# Altium schematic symbol library MyLibs_DCDC.SchLib: 14 symbols
Pins are listed as number, name and electrical type; pins without a type are passive.

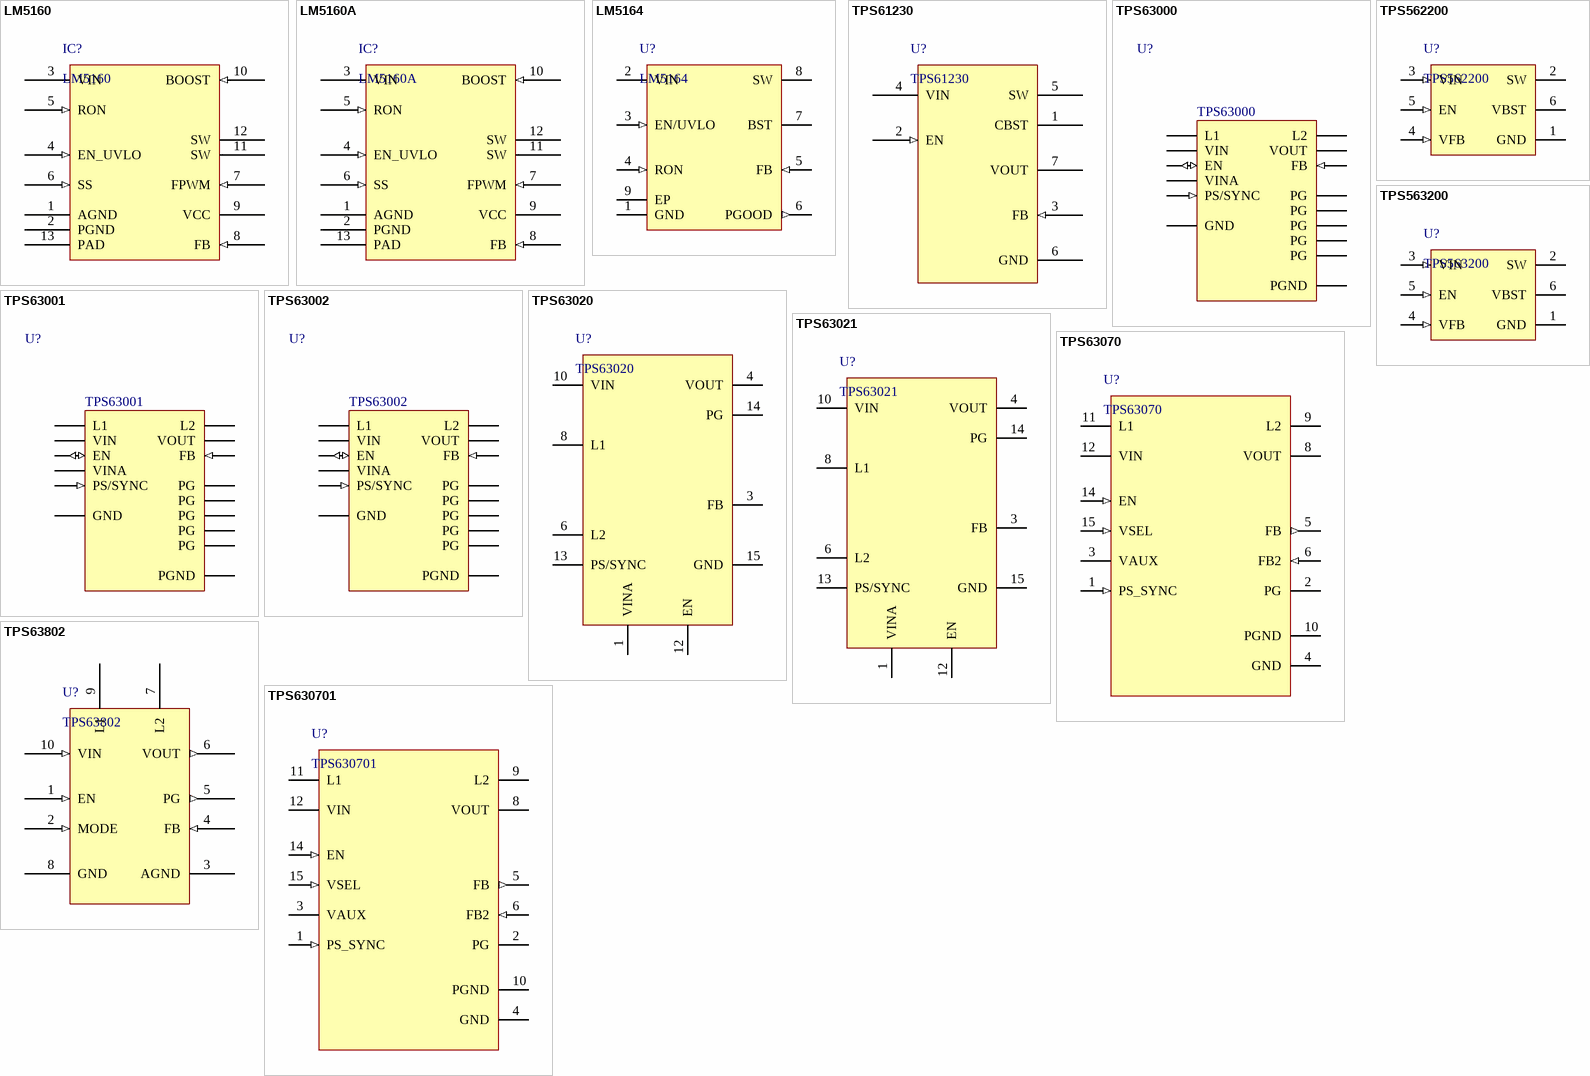
[diagram p0: symbols LM5160 to TPS630701]

## LM5160
designator IC?
Wide Input 65-V, 2-A Synchronous Buck / Fly-Buck™ DC/DC Converter
pins: 1 AGND, 2 PGND, 3 VIN, 4 EN_UVLO (in), 5 RON (in), 6 SS (in), 7 FPWM (in), 8 FB (in), 9 VCC, 10 BOOST (in), 11 SW, 12 SW, 13 PAD

## LM5160A
designator IC?
Wide Input 65-V, 2-A Synchronous Buck / Fly-Buck™ DC/DC Converter
pins: 1 AGND, 2 PGND, 3 VIN, 4 EN_UVLO (in), 5 RON (in), 6 SS (in), 7 FPWM (in), 8 FB (in), 9 VCC, 10 BOOST (in), 11 SW, 12 SW, 13 PAD

## LM5164
designator U?
100-V Input, 1-A synchronous buck DC/DC converter with ultra-low Iq
pins: 1 GND (power), 2 VIN (power), 3 EN/UVLO (in), 4 RON (in), 5 FB (in), 6 PGOOD (out), 7 BST (power), 8 SW (power), 9 EP (power)

## TPS61230
designator U?
High Efficiency Synchronous Boost Converter With 5-A Switch
pins: 1 CBST, 2 EN (in), 3 FB (in), 4 VIN, 5 SW, 6 GND, 7 VOUT

## TPS63000
designator U?
High-Efficient Single Inductor Buck-Boost Converter With 1.8-A Switches
pins: 1 VOUT (power), 2 L2, 3 PGND (power), 4 L1, 5 VIN (power), 6 EN (io), 7 PS/SYNC (in), 8 VINA (power), 9 GND (power), 10 FB (in), P$1 PG (power), P$2 PG (power), P$3 PG (power), P$4 PG (power), P$5 PG (power)

## TPS63001
designator U?
High-Efficient Single Inductor Buck-Boost Converter With 1.8-A Switches
pins: 1 VOUT (power), 2 L2, 3 PGND (power), 4 L1, 5 VIN (power), 6 EN (io), 7 PS/SYNC (in), 8 VINA (power), 9 GND (power), 10 FB (in), P$1 PG (power), P$2 PG (power), P$3 PG (power), P$4 PG (power), P$5 PG (power)

## TPS63002
designator U?
High-Efficient Single Inductor Buck-Boost Converter With 1.8-A Switches
pins: 1 VOUT (power), 2 L2, 3 PGND (power), 4 L1, 5 VIN (power), 6 EN (io), 7 PS/SYNC (in), 8 VINA (power), 9 GND (power), 10 FB (in), P$1 PG (power), P$2 PG (power), P$3 PG (power), P$4 PG (power), P$5 PG (power)

## TPS63020
designator U?
Adj Output High Efficiency Single Inductor Buck-boost Converter with 4-A Switches
pins: 1 VINA, 2 GND, 3 FB, 4 VOUT, 5 VOUT, 6 L2, 7 L2, 8 L1, 9 L1, 10 VIN, 11 VIN, 12 EN, 13 PS/SYNC, 14 PG, 15 GND

## TPS63021
designator U?
3.3V Output High Efficiency Single Inductor Buck-boost Converter with 4-A Switches
pins: 1 VINA, 2 GND, 3 FB, 4 VOUT, 5 VOUT, 6 L2, 7 L2, 8 L1, 9 L1, 10 VIN, 11 VIN, 12 EN, 13 PS/SYNC, 14 PG, 15 GND

## TPS63070
designator U?
2-V to 16-V Buck-Boost Converter With 3.6-A Switch Current, Adj Output
pins: 1 PS_SYNC (in), 2 PG (oc), 3 VAUX, 4 GND (power), 5 FB (out), 6 FB2 (in), 7 VOUT (power), 8 VOUT (power), 9 L2, 10 PGND (power), 11 L1, 12 VIN (power), 13 VIN (power), 14 EN (in), 15 VSEL (in)

## TPS63802
designator U?
High-efficient, Low IQ Buck-boost Converter in DFN Package
pins: 1 EN (in) "Device Enable input. Set HIGH to enable and LOW to disable. It must not be left floating.", 2 MODE (in) "PFM/PWM mode selection. Set LOW for power safe mode, set HIGH for forced PWM mode. It must not be  left floating.", 3 AGND (power) "Analog ground", 4 FB (in) "Voltage feedback sensing pin", 5 PG (out) "Power good indicator, open-drain output", 6 VOUT (out) "Power stage output", 7 L2 (power) "Connection for inductor", 8 GND (power) "Power ground", 9 L1 (power) "Connection for inductor", 10 VIN (in) "Supply voltage input"

## TPS562200
designator U?
4.5-V To 17-V Input, 2-A Synchronous Step-Down Voltage Regulator In 6 Pin SOT-23
pins: 1 GND (power), 2 SW (power), 3 VIN (in), 4 VFB (in), 5 EN (in), 6 VBST (power)

## TPS563200
designator U?
4.5-V To 17-V Input, 3-A Synchronous Step-Down Voltage Regulator In 6 Pin SOT-23
pins: 1 GND (power), 2 SW (power), 3 VIN (in), 4 VFB (in), 5 EN (in), 6 VBST (power)

## TPS630701
designator U?
2-V to 16-V Buck-Boost Converter With 3.6-A Switch Current, 5-V Output
pins: 1 PS_SYNC (in), 2 PG (oc), 3 VAUX, 4 GND (power), 5 FB (out), 6 FB2 (in), 7 VOUT (power), 8 VOUT (power), 9 L2, 10 PGND (power), 11 L1, 12 VIN (power), 13 VIN (power), 14 EN (in), 15 VSEL (in)